# Altium schematic symbol library 150060GS75000.SchLib: 1 symbol
Pins are listed as number, name and electrical type; pins without a type are passive.

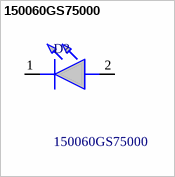
[diagram p0: symbol 150060GS75000]

## 150060GS75000
designator D?
WL-SMCW SMT Mono-Color Chip LED Waterclear 0603, Green Typ.(@20mA): 520nm, 430mcd, 3.2V, 140 InGaN; Manufacturer_Name: Wurth Elektronik; Geometry.Height: 0.7mm; Mouser Part Number: 710-150060GS75000; Mouser Price/Stock: https://www.mouser.co.uk/ProductDetail/Wurth-Elektronik/150060GS75000?qs=LlUlMxKIyB0UYkq5lDO8nA%3D%3D; Manufacturer_Part_Number: 150060GS75000; Datasheet Link: https://www.we-online.com/catalog/datasheet/150060GS75000.pdf
footprint LEDC1608X70N
pins: 1 K, 2 A